# EAGLE library part ATTINY*7 (library atmel)
8-bit AVR tiny Microcontroller Status aktiv aktiv ATtiny87 ATtiny167 General purpose working registers 32 SRAM 512 B Program flash memory 8 kB 16 kB EEPROM 512 B 16-bit Timer/Counter 1 8-bit Timer/Counter 1 SPI 1 LIN or UART 1 ADC channels 11 ADC resolution 10 bit AC 1 Watchdog 1 General purpose I/O 16 External interrupts 16 Operating voltage 1.8 ... 5.5 V Speed grade 0 ... 4 MHz @ 1.8 ... 5.5 V 0 ... 8 MHz @ 2.7 ... 5.5 V 0 ... 16 MHz @ 4.5 ... 5.5V Clock options calibrated internal 8 MHz oscillator external crystal oscillator / ceramic resonator external 32.768 kHz low-frequency crystal oscillator internal 128 kHz oscillator external clock input
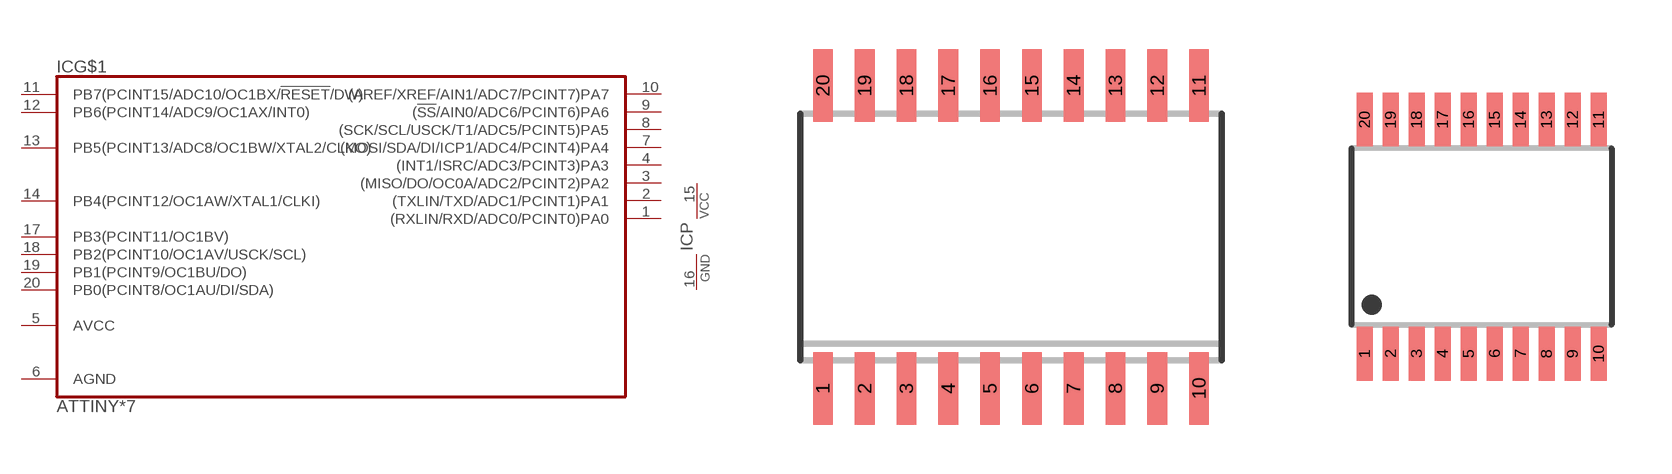
[diagram p80: symbol with the pads of SO20W; footprints SO20W, MO-153AC]

Designator prefix IC; gates G$1=TINY87 P=PWR

## ATTINY167-SU, ATTINY87-SU  [SO20W]
1  G$1:(RXLIN/RXD/ADC0/PCINT0)PA0
2  G$1:(TXLIN/TXD/ADC1/PCINT1)PA1
3  G$1:(MISO/DO/OC0A/ADC2/PCINT2)PA2
4  G$1:(INT1/ISRC/ADC3/PCINT3)PA3
5  G$1:AVCC  pwr
6  G$1:AGND  pas
7  G$1:(MOSI/SDA/DI/ICP1/ADC4/PCINT4)PA4
8  G$1:(SCK/SCL/USCK/T1/ADC5/PCINT5)PA5
9  G$1:(!SS!/AIN0/ADC6/PCINT6)PA6
10  G$1:(AREF/XREF/AIN1/ADC7/PCINT7)PA7
11  G$1:PB7(PCINT15/ADC10/OC1BX/!RESET!/DW)
12  G$1:PB6(PCINT14/ADC9/OC1AX/INT0)
13  G$1:PB5(PCINT13/ADC8/OC1BW/XTAL2/CLKO)
14  G$1:PB4(PCINT12/OC1AW/XTAL1/CLKI)
15  P:VCC  pwr
16  P:GND  pwr
17  G$1:PB3(PCINT11/OC1BV)
18  G$1:PB2(PCINT10/OC1AV/USCK/SCL)
19  G$1:PB1(PCINT9/OC1BU/DO)
20  G$1:PB0(PCINT8/OC1AU/DI/SDA)

## ATTINY167-XU, ATTINY87-XU  [MO-153AC]
Pads as for SO20W

## ATTINY167-MU, ATTINY87-MU  [QFN32_5X5_0.50]
3  G$1:(INT1/ISRC/ADC3/PCINT3)PA3
4  G$1:AVCC  pwr
5  G$1:AGND  pas
9  G$1:(MOSI/SDA/DI/ICP1/ADC4/PCINT4)PA4
10  G$1:(SCK/SCL/USCK/T1/ADC5/PCINT5)PA5
11  G$1:(!SS!/AIN0/ADC6/PCINT6)PA6
12  G$1:(AREF/XREF/AIN1/ADC7/PCINT7)PA7
14  G$1:PB7(PCINT15/ADC10/OC1BX/!RESET!/DW)
15  G$1:PB6(PCINT14/ADC9/OC1AX/INT0)
18  G$1:PB5(PCINT13/ADC8/OC1BW/XTAL2/CLKO)
19  G$1:PB4(PCINT12/OC1AW/XTAL1/CLKI)
20  P:VCC  pwr
21  P:GND  pwr
25  G$1:PB3(PCINT11/OC1BV)
26  G$1:PB2(PCINT10/OC1AV/USCK/SCL)
27  G$1:PB1(PCINT9/OC1BU/DO)
28  G$1:PB0(PCINT8/OC1AU/DI/SDA)
29  G$1:(RXLIN/RXD/ADC0/PCINT0)PA0
30  G$1:(TXLIN/TXD/ADC1/PCINT1)PA1
31  G$1:(MISO/DO/OC0A/ADC2/PCINT2)PA2
EXP  P:GND  pwr

## Footprint SO20W (pad centres in mm)
Small Outline IC, 300mil body width, 50mil lead pitch package/pad dimensions according to IPC-SM-782, RLP No. 306A JEDEC: MS-013 AC IPC: SO20W other notations: SO-20W, SOIC20W, SOIC-20W
smd 0.6 x 2.2: 1 -5.715,-4.6; 2 -4.445,-4.6; 3 -3.175,-4.6; 4 -1.905,-4.6; 5 -0.635,-4.6; 6 0.635,-4.6; 7 1.905,-4.6; 8 3.175,-4.6; 9 4.445,-4.6; 10 5.715,-4.6; 11 5.715,4.6; 12 4.445,4.6; 13 3.175,4.6; 14 1.905,4.6; 15 0.635,4.6; 16 -0.635,4.6; 17 -1.905,4.6; 18 -3.175,4.6; 19 -4.445,4.6; 20 -5.715,4.6

## Footprint MO-153AC (pad centres in mm)
Small Shrink Outline Package, 6.5mm x 4.4mm body, 0.65mm lead pitch JEDEC: MO-153, variation AC NXP: TSSOP20 (SOT360) Texas Instruments: PW (R-PDSO-G20) other notations: TSSOP20, TSSOP-20
smd 0.4 x 1.35: 1 -2.925,-2.925; 2 -2.275,-2.925; 3 -1.625,-2.925; 4 -0.975,-2.925; 5 -0.325,-2.925; 6 0.325,-2.925; 7 0.975,-2.925; 8 1.625,-2.925; 9 2.275,-2.925; 10 2.925,-2.925; 11 2.925,2.925; 12 2.275,2.925; 13 1.625,2.925; 14 0.975,2.925; 15 0.325,2.925; 16 -0.325,2.925; 17 -0.975,2.925; 18 -1.625,2.925; 19 -2.275,2.925; 20 -2.925,2.925

## Footprint QFN32_5X5_0.50 (pad centres in mm)
32-Lead Plastic QFN, 5mm x 5mm body, 0.5mm lead pitch, exposed pad ATMEL Code: 32M1-A Micro Lead Frame package (MLF) NXP Code: SOT617
smd 0.8 x 0.3: 1 -2.5,1.75; 2 -2.5,1.25; 3 -2.5,0.75; 4 -2.5,0.25; 5 -2.5,-0.25; 6 -2.5,-0.75; 7 -2.5,-1.25; 8 -2.5,-1.75; 17 2.5,-1.75; 18 2.5,-1.25; 19 2.5,-0.75; 20 2.5,-0.25; 21 2.5,0.25; 22 2.5,0.75; 23 2.5,1.25; 24 2.5,1.75
smd 0.3 x 0.8: 9 -1.75,-2.5; 10 -1.25,-2.5; 11 -0.75,-2.5; 12 -0.25,-2.5; 13 0.25,-2.5; 14 0.75,-2.5; 15 1.25,-2.5; 16 1.75,-2.5; 25 1.75,2.5; 26 1.25,2.5; 27 0.75,2.5; 28 0.25,2.5; 29 -0.25,2.5; 30 -0.75,2.5; 31 -1.25,2.5; 32 -1.75,2.5
smd 3.7 x 3.7: EXP 0,0